# Altium footprint library MCP4462.PcbLib: 1 footprints
Each footprint in its own frame and in the unit in brackets; x right, y up, seen from the top. Pads: shape width x height; smd on the part's side, far side on the other; paste and mask are expansions set on the pad; w line width, h text height; cw(c..) or ccw(c..) is an arc to the next point about the centre after c.
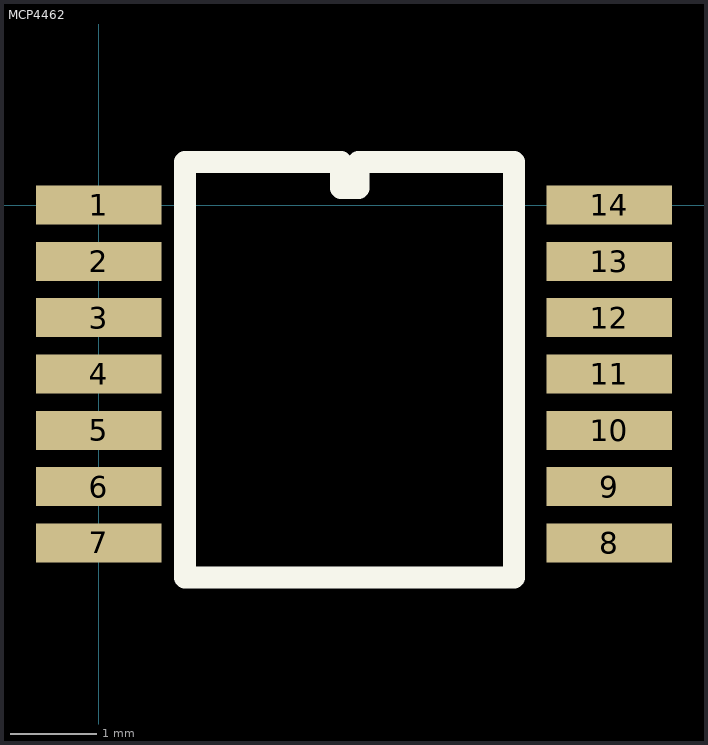
[diagram p0: the footprint, top view; thin cyan lines are the x and y axes]

## MCP4462 [mm]
pads (14):
  rect 1.45x0.45 smd: 1(0,0) 2(0,-0.65) 3(0,-1.3) 4(0,-1.95) 5(0,-2.6) 6(0,-3.25) 7(0,-3.9) 8(5.9,-3.9) 9(5.9,-3.25) 10(5.9,-2.6) 11(5.9,-1.95) 12(5.9,-1.3) 13(5.9,-0.65) 14(5.9,0)
Top Overlay:
  lines w0.254: 1,-4.3 1,0.5 2.8,0.5 2.8,0.2 3,0.2 3,0.5 4.8,0.5 4.8,-4.3 1,-4.3
3D body: height 1.1, standoff 0, extent -0.2,-4.45 6.2,0.55